# Altium schematic symbol library 04_Operational_Amplifier.SchLib: 10 symbols
Pins are listed as number, name and electrical type; pins without a type are passive.

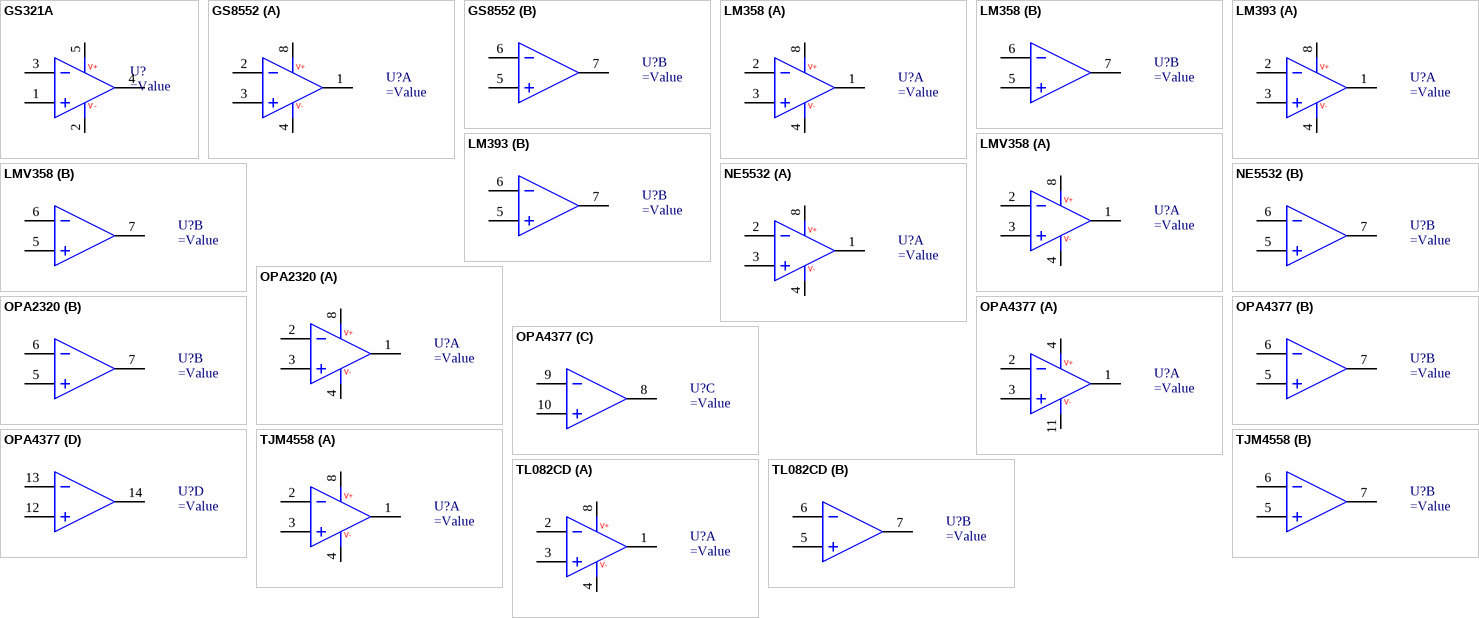
[diagram p0: symbols GS321A to TL082CD]

## GS321A
designator U?
1路轨到轨运算放大器
pins: 1 +IN, 2 V- (power), 3 -IN, 4 OUT, 5 V+ (power)

## GS8552
designator U?
2路精密运算放大器
part A pins: 1 OUT1, 2 IN1-, 3 IN1+, 4 V- (power), 8 V+ (power)
part B pins: 5 IN2+, 6 IN2-, 7 OUT2

## LM358
designator U?
2路通用运算放大器
part A pins: 1 OUT1, 2 IN1-, 3 IN1+, 4 V- (power), 8 V+ (power)
part B pins: 5 IN2+, 6 IN2-, 7 OUT2

## LM393
designator U?
2路比较器
part A pins: 1 OUT1, 2 IN1-, 3 IN1+, 4 V- (power), 8 V+ (power)
part B pins: 5 IN2+, 6 IN2-, 7 OUT2

## LMV358
designator U?
2路通用运算放大器
part A pins: 1 OUT1, 2 IN1-, 3 IN1+, 4 V- (power), 8 V+ (power)
part B pins: 5 IN2+, 6 IN2-, 7 OUT2

## NE5532
designator U?
2路通用运算放大器
part A pins: 1 OUT1, 2 IN1-, 3 IN1+, 4 V- (power), 8 V+ (power)
part B pins: 5 IN2+, 6 IN2-, 7 OUT2

## OPA2320
designator U?
2路精密运算放大器
part A pins: 1 OUT1, 2 IN1-, 3 IN1+, 4 V- (power), 8 V+ (power)
part B pins: 5 IN2+, 6 IN2-, 7 OUT2

## OPA4377
designator U?
4路精密运算放大器
part A pins: 1 OUT1, 2 IN1-, 3 IN1+, 4 V+ (power), 11 V- (power)
part B pins: 5 IN2+, 6 IN2-, 7 OUT2
part C pins: 8 OUT3, 9 IN3-, 10 IN3+
part D pins: 12 IN4+, 13 IN4-, 14 OUT4

## TJM4558
designator U?
2路通用运算放大器
part A pins: 1 OUT1, 2 IN1-, 3 IN1+, 4 V- (power), 8 V+ (power)
part B pins: 5 IN2+, 6 IN2-, 7 OUT2

## TL082CD
designator U?
2路FET输入运算放大器
part A pins: 1 OUT1, 2 IN1-, 3 IN1+, 4 V- (power), 8 V+ (power)
part B pins: 5 IN2+, 6 IN2-, 7 OUT2